# EAGLE library part MOLEX_BARRIER_8 (library Molex Barrier Terminal)
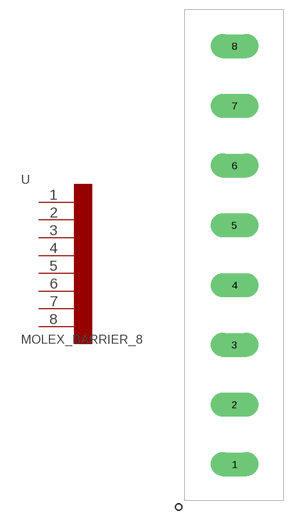
[diagram p0: symbol with the pads of MOLEX_BARRIER_8; footprint MOLEX_BARRIER_8]

Designator prefix -

## MOLEX_BARRIER_8  [MOLEX_BARRIER_8]
1
2
3
4
5
6
7
8

## Footprint MOLEX_BARRIER_8 (pad centres in mm)
drill 1.6 pad 3.81 long: 1 7.9,5.8; 2 7.9,15.325; 3 7.9,24.85; 4 7.9,34.375; 5 7.9,43.9; 6 7.9,53.425; 7 7.9,62.95; 8 7.9,72.475